# Altium footprint library Adams Altium Library.PcbLib: 104 footprints (part 6 of 7)
Each footprint in its own frame and in the unit in brackets; x right, y up, seen from the top. Pads: shape width x height; smd on the part's side, far side on the other; paste and mask are expansions set on the pad; w line width, h text height; cw(c..) or ccw(c..) is an arc to the next point about the centre after c.
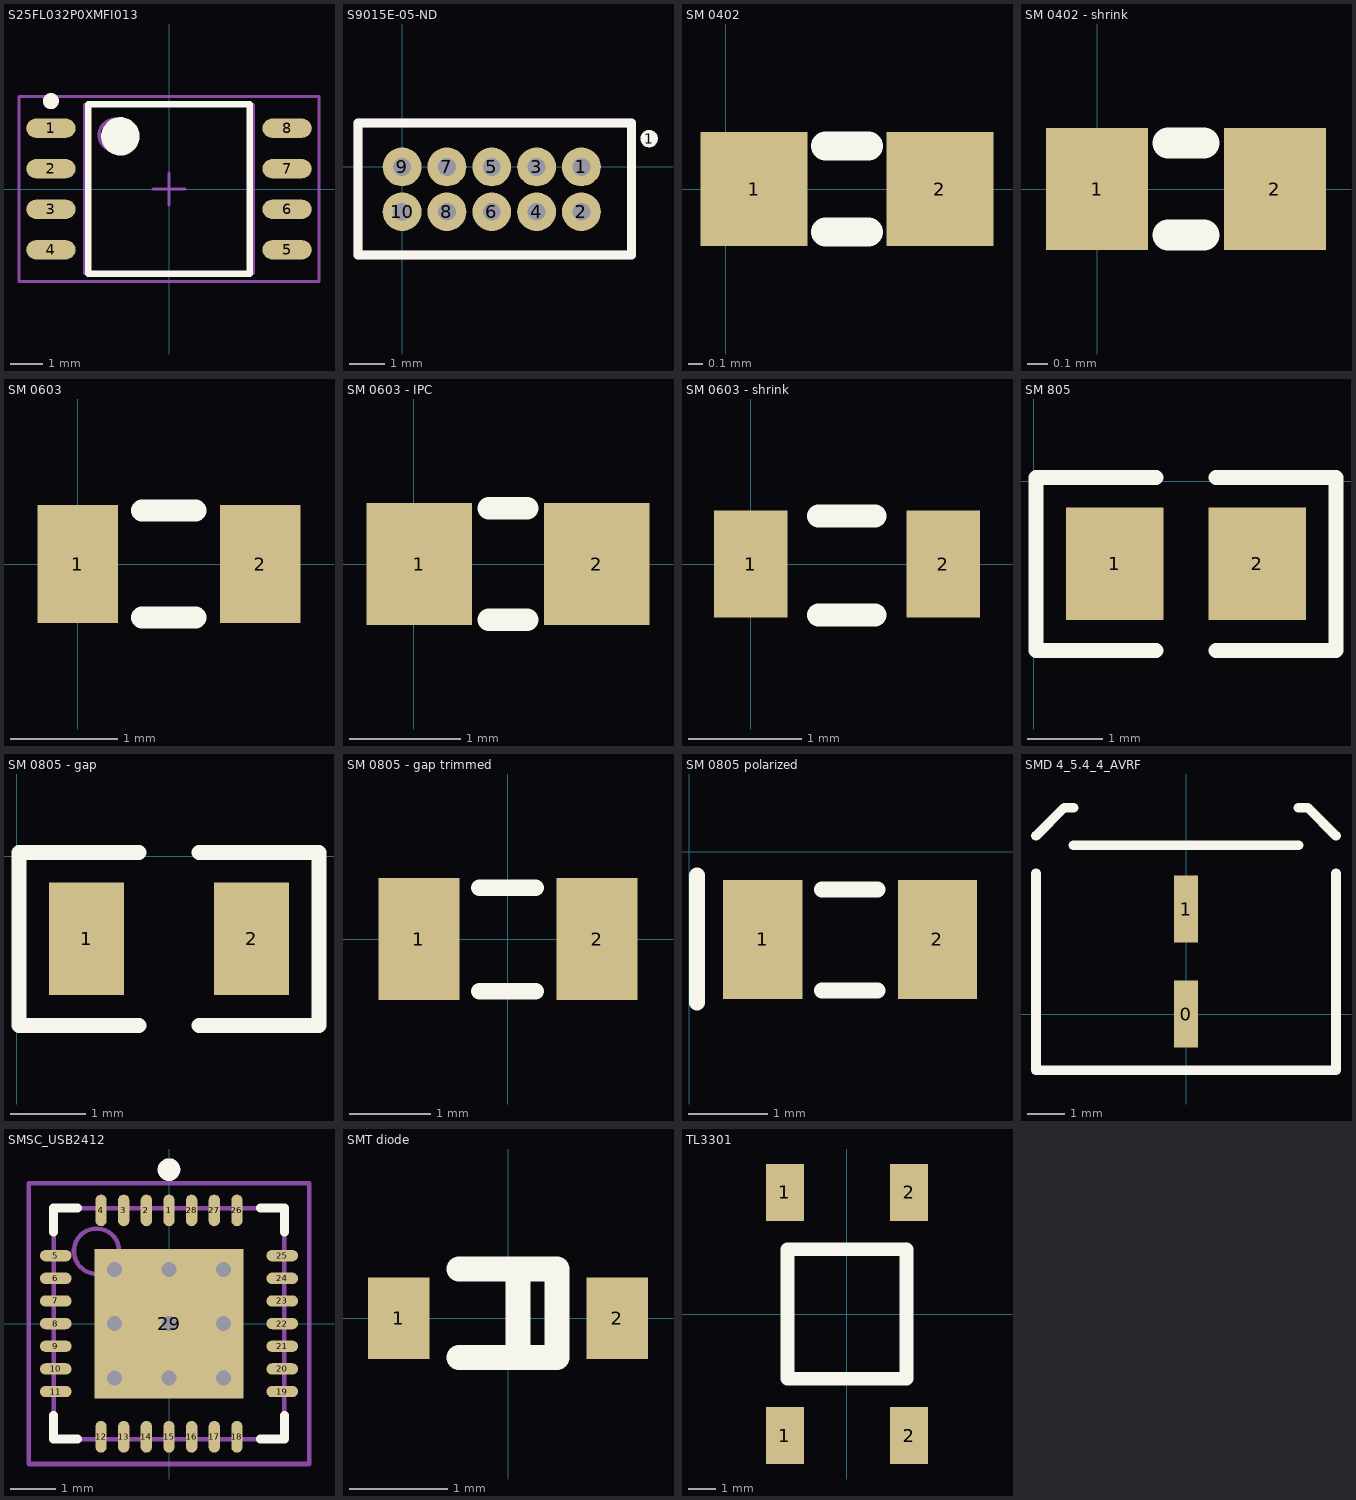
[diagram p5: the footprints below, top view; thin cyan lines are the x and y axes]

## S25FL032P0XMFI013 [mm] "SOP, 8-Leads, Body 5.3x5.3mm (max), Pitch 1.27mm, IPC Medium Density"
height 2.159
pads (8):
  oval 1.55x0.6 smd: 1(-3.7,1.905) 2(-3.7,0.635) 3(-3.7,-0.635) 4(-3.7,-1.905) 5(3.7,-1.905) 6(3.7,-0.635) 7(3.7,0.635) 8(3.7,1.905)
Top Overlay:
  circle w0.25: c-3.7,2.755 r0.125
  circle w0.6: c-1.525,1.65 r0.3
  lines w0.2: -2.525,-2.65 -2.525,2.65 2.525,2.65 2.525,-2.65 -2.525,-2.65
Mechanical 13:
  circle w0.1: c-1.69,1.69 r0.5
  lines w0.1: -2.64,-2.64 -2.64,2.64 2.64,2.64 2.64,-2.64 -2.64,-2.64
Mechanical 15:
  lines w0.1: -0.5,0 0.5,0 ; 0,-0.5 0,0.5 ; -4.7,-2.9 -4.7,2.9 4.7,2.9 4.7,-2.9 -4.7,-2.9
3D body: height 2.16, standoff 0.05, extent -2.64,-2.64 2.64,2.64

## S9015E-05-ND [mm] "10 Pin Cortex JTAG Debug Header"
pads (11):
  round 1.1 hole 0.508: 1(5.08,0) 2(5.08,-1.27) 3(3.81,0) 4(3.81,-1.27) 5(2.54,0) 6(2.54,-1.27) 7(1.27,0) 8(1.27,-1.27) 9(0,0) 10(0,-1.27)
  round 0.5 on Top Overlay: 1(7,0.8)
Top Overlay:
  lines w0.254: -1.25,-2.5 6.5,-2.5 6.5,1.25 -1.25,1.25 -1.25,-2.5
Mechanical 13:
  lines w0.254: -1.25,-2.5 6.5,-2.5 6.5,1.25 -1.25,1.25 -1.25,-2.5

## SM 0402 [mm]
pads (2):
  rect 0.75x0.8 smd: 1(0.2,0) 2(1.5,0)
Top Overlay:
  lines w0.203: 0.7,-0.3 1,-0.3 ; 0.7,0.3 1,0.3

## SM 0402 - shrink [mm]
pads (2):
  rect 0.5x0.6 smd mask+0.051: 1(0,0) 2(0.875,0)
Top Overlay:
  lines w0.152: 0.35,-0.225 0.525,-0.225 ; 0.35,0.225 0.525,0.225

## SM 0603 [mm]
pads (2):
  rect 0.75x1.1 smd: 1(0,0) 2(1.704,0)
Top Overlay:
  lines w0.203: 0.6,-0.5 1.1,-0.5 ; 0.6,0.5 1.1,0.5

## SM 0603 - IPC [mm]
pads (2):
  rect 0.95x1.1 smd: 1(0.05,0) 2(1.65,0)
Top Overlay:
  lines w0.203: 0.675,-0.5 1.025,-0.5 ; 0.675,0.5 1.025,0.5

## SM 0603 - shrink [mm]
pads (2):
  rect 0.65x0.95 smd: 1(0,0) 2(1.704,0)
Top Overlay:
  lines w0.203: 0.6,-0.45 1.1,-0.45 ; 0.6,0.425 1.1,0.425

## SM 805 [mm]
pads (2):
  rect 1.3x1.5 smd: 1(1.079,-1.105) 2(2.979,-1.105)
Top Overlay:
  lines w0.2: 1.629,-2.255 0.029,-2.255 0.029,0.045 1.629,0.045 ; 2.429,-2.255 4.029,-2.255 4.029,0.045 2.429,0.045

## SM 0805 - gap [mm]
pads (2):
  rect 1x1.5 smd: 1(0.93,-1.105) 2(3.13,-1.105)
Top Overlay:
  lines w0.2: 1.629,-2.255 0.029,-2.255 0.029,0.045 1.629,0.045 ; 2.429,-2.255 4.029,-2.255 4.029,0.045 2.429,0.045

## SM 0805 - gap trimmed [mm]
pads (2):
  rect 1x1.5 smd: 1(-1.1,0) 2(1.1,0)
Top Overlay:
  lines w0.203: -0.355,-0.645 0.345,-0.645 ; -0.355,0.63 0.345,0.63

## SM 0805 polarized [mm]
pads (2):
  rect 1x1.5 smd: 1(0.93,-1.105) 2(3.13,-1.105)
Top Overlay:
  lines w0.203: 0.1,-1.9 0.1,-0.3 ; 1.675,-1.75 2.375,-1.75 ; 1.675,-0.475 2.375,-0.475

## SMD 4_5.4_4_AVRF [mm] "SMD Electrolytic"
height 4
pads (2):
  rect 0.65x1.8 smd: 0(0,0) 1(0,2.8)
Top Overlay:
  lines w0.254: -4,3.75 -4,-1.5 4,-1.5 4,3.75 ; -4,4.75 -3.25,5.5 -3,5.5 ; -3,4.5 3,4.5 ; 3,5.5 3.25,5.5 4,4.75

## SMSC_USB2412 [mm] "QFN, 28-Leads, Body 5.1x5.1mm (max), Pitch 0.50mm, IPC Medium Density"
height 1
pads (29):
  oval 0.25x0.7 smd: 1(0,2.5) 2(-0.5,2.5) 3(-1,2.5) 4(-1.5,2.5) 12(-1.5,-2.5) 13(-1,-2.5) 14(-0.5,-2.5) 15(0,-2.5) 16(0.5,-2.5) 17(1,-2.5) 18(1.5,-2.5) 26(1.5,2.5) 27(1,2.5) 28(0.5,2.5)
  oval 0.7x0.25 smd: 5(-2.5,1.5) 6(-2.5,1) 7(-2.5,0.5) 8(-2.5,0) 9(-2.5,-0.5) 10(-2.5,-1) 11(-2.5,-1.5) 19(2.5,-1.5) 20(2.5,-1) 21(2.5,-0.5) 22(2.5,0) 23(2.5,0.5) 24(2.5,1) 25(2.5,1.5)
  rect 3.3x3.3 smd: 29(0,0)
via 1.2,-1.2 diameter 0.66 hole 0.33
via 0,-1.2 diameter 0.66 hole 0.33
via -1.2,-1.2 diameter 0.66 hole 0.33
via 1.2,0 diameter 0.66 hole 0.33
via 0,0 diameter 0.66 hole 0.33
via -1.2,0 diameter 0.66 hole 0.33
via 1.2,1.2 diameter 0.66 hole 0.33
via 0,1.2 diameter 0.66 hole 0.33
via -1.2,1.2 diameter 0.66 hole 0.33
Top Overlay:
  circle w0.25: c0,3.4 r0.125
  lines w0.2: -2.55,-2.025 -2.55,-2.55 -2.025,-2.55 ; -2.55,2.025 -2.55,2.55 -2.025,2.55 ; 2.025,-2.55 2.55,-2.55 2.55,-2.025 ; 2.025,2.55 2.55,2.55 2.55,2.025
Mechanical 13:
  circle w0.1: c-1.6,1.6 r0.5
  lines w0.1: -2.55,-2.55 2.55,-2.55 2.55,2.55 -2.55,2.55 -2.55,-2.55
Mechanical 15:
  lines w0.1: -0.5,0 0.5,0 ; 0,-0.5 0,0.5 ; -3.1,-3.1 3.1,-3.1 3.1,3.1 -3.1,3.1 -3.1,-3.1
3D body: height 1, standoff 0.05, extent -2.55,-2.55 2.55,2.55

## SMT diode [mm]
pads (2):
  rect 0.63x0.83 smd: 1(-1.115,0) 2(1.115,0)
Top Overlay:
  lines w0.254: -0.5,-0.4 0.5,-0.4 0.5,0.5 -0.5,0.5 ; 0.1,-0.4 0.1,0.5

## TD_VLF3012S-74 [mm] "2.2uH Inductor for Switching DCDC"
height 1.5

## TL3301 [mm]
pads (4):
  rect 1.4x2.1 smd: 1(-2.3,-4.5) 1(-2.3,4.5) 2(2.3,-4.5) 2(2.3,4.5)
Top Overlay:
  lines w0.508: -2.2,-2.4 2.2,-2.4 2.2,2.4 0,2.4 -2.2,2.4 -2.2,-2.4